# EAGLE library part TA2022 (library tripas)
STEREO 90W (4.) CLASS-TM DIGITAL AUDIO AMPLIFIER DRIVER USING DIGITAL POWER PROCESSING (DPP TM) TECHNOLOGY Source: http://www.tripath.com/audio.htm .. TA2022.pdf
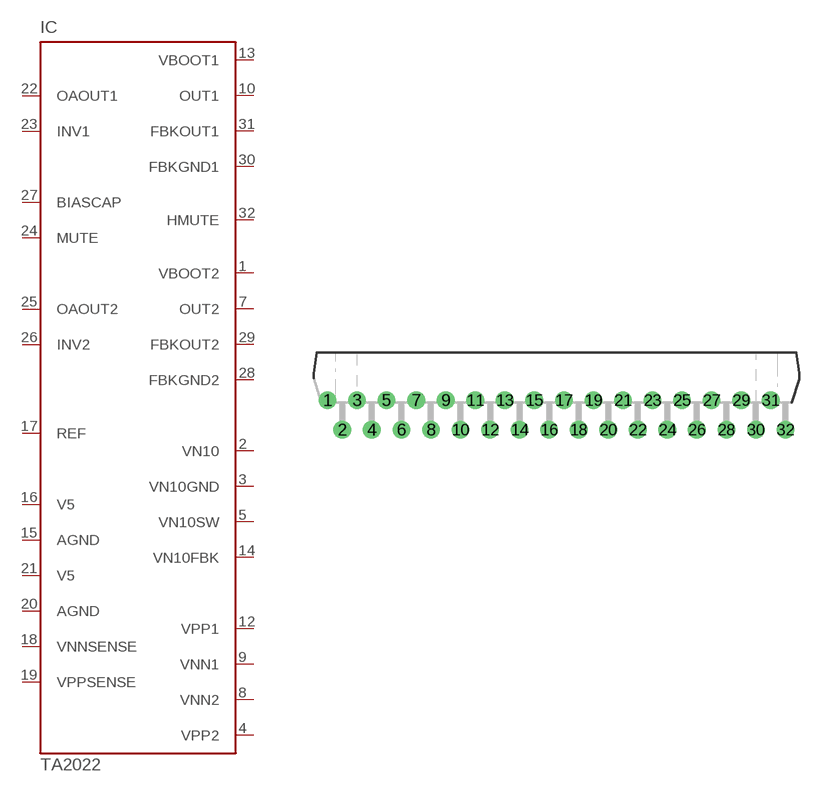
[diagram p0: symbol with the pads of SSIP-32; footprint SSIP-32]

Designator prefix IC

## TA2022 (OC_FARNELL: unknown; OC_NEWARK: unknown)  [SSIP-32]
1  VBOOT2  in
2  VN10  in
3  VN10GND  pwr
4  VPP2  pwr
5  VN10SW  out
7  OUT2  out
8  VNN2  pwr
9  VNN1  pwr
10  OUT1  out
12  VPP1  pwr
13  VBOOT1  in
14  VN10FBK  out
15  AGND  pwr
16  V5  pwr
17  REF  pas
18  VNNSENSE  in
19  VPPSENSE  in
20  AGND  pwr
21  V5  pwr
22  OAOUT1  out
23  INV1  in
24  MUTE  in
25  OAOUT2  out
26  INV2  in
27  BIASCAP  pas
28  FBKGND2  out
29  FBKOUT2  out
30  FBKGND1
31  FBKOUT1  out
32  HMUTE  out

## Footprint SSIP-32 (pad centres in mm)
32-pin SSIP Source: http://www.tripath.com/audio.htm
drill 0.813 pad 1.524 round: 1 -19.685,2.54; 2 -18.415,0; 3 -17.145,2.54; 4 -15.875,0; 5 -14.605,2.54; 6 -13.335,0; 7 -12.065,2.54; 8 -10.795,0; 9 -9.525,2.54; 10 -8.255,0; 11 -6.985,2.54; 12 -5.715,0; 13 -4.445,2.54; 14 -3.175,0; 15 -1.905,2.54; 16 -0.635,0; 17 0.635,2.54; 18 1.905,0; 19 3.175,2.54; 20 4.445,0; 21 5.715,2.54; 22 6.985,0; 23 8.255,2.54; 24 9.525,0; 25 10.795,2.54; 26 12.065,0; 27 13.335,2.54; 28 14.605,0; 29 15.875,2.54; 30 17.145,0; 31 18.415,2.54; 32 19.685,0